# EAGLE library part TPS2085D (library PocketCube)
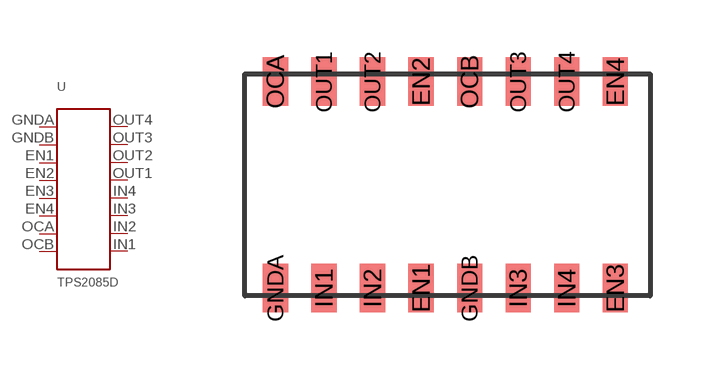
[diagram p21: symbol with the pads of TPS2085D; footprint TPS2085D]

Designator prefix -

## TPS2085D  [TPS2085D]
EN1  EN1
EN2  EN2
EN3  EN3
EN4  EN4
GNDA  GNDA
GNDB  GNDB
IN1  IN1
IN2  IN2
IN3  IN3
IN4  IN4
OCA  OCA
OCB  OCB
OUT1  OUT1
OUT2  OUT2
OUT3  OUT3
OUT4  OUT4

## Footprint TPS2085D (pad centres in mm)
smd 0.66 x 1.27: EN1 3.81,0; EN2 3.81,5.4; EN3 8.89,0; EN4 8.89,5.4; GNDA 0,0; GNDB 5.08,0; IN1 1.27,0; IN2 2.54,0; IN3 6.35,0; IN4 7.62,0; OCA 0,5.4; OCB 5.08,5.4; OUT1 1.27,5.4; OUT2 2.54,5.4; OUT3 6.35,5.4; OUT4 7.62,5.4